# Altium integrated library STGIPQ8C60T-HZ.IntLib: 1 symbol
Pins are listed as number, name and electrical type; pins without a type are passive.

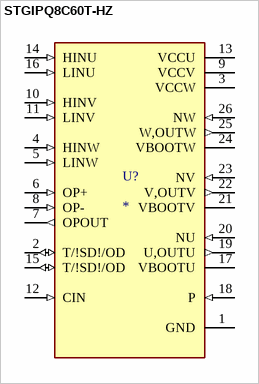
[diagram p0: symbol STGIPQ8C60T-HZ]

## STGIPQ8C60T-HZ
designator U?
SLLIMM nano 2nd series IPM, 3-phase inverter, 5 A, 600 V short-circuit rugged IGBTs; MP: STGIPQ8C60T-HZ; Package: None; Price: None; Value: *; Availability: Unavailable
footprint ST_STGIPQ8C60T-HZ
pins: 1 GND (power), 2 T/!SD!/OD (io), 3 VCCW (power), 4 HINW (in), 5 LINW (in), 6 OP+ (in), 7 OPOUT (out), 8 OP- (in), 9 VCCV (power), 10 HINV (in), 11 LINV (in), 12 CIN (in), 13 VCCU (power), 14 HINU (in), 15 T/!SD!/OD (io), 16 LINU (in), 17 VBOOTU (power), 18 P (in), 19 U,OUTU (out), 20 NU (in), 21 VBOOTV (power), 22 V,OUTV (out), 23 NV (in), 24 VBOOTW (power), 25 W,OUTW (out), 26 NW (in)